# Altium footprint library Connector_Samtec_HSEC8.PcbLib: 133 footprints (part 2 of 9)
Each footprint in its own frame and in the unit in brackets; x right, y up, seen from the top. Pads: shape width x height; smd on the part's side, far side on the other; paste and mask are expansions set on the pad; w line width, h text height; cw(c..) or ccw(c..) is an arc to the next point about the centre after c.
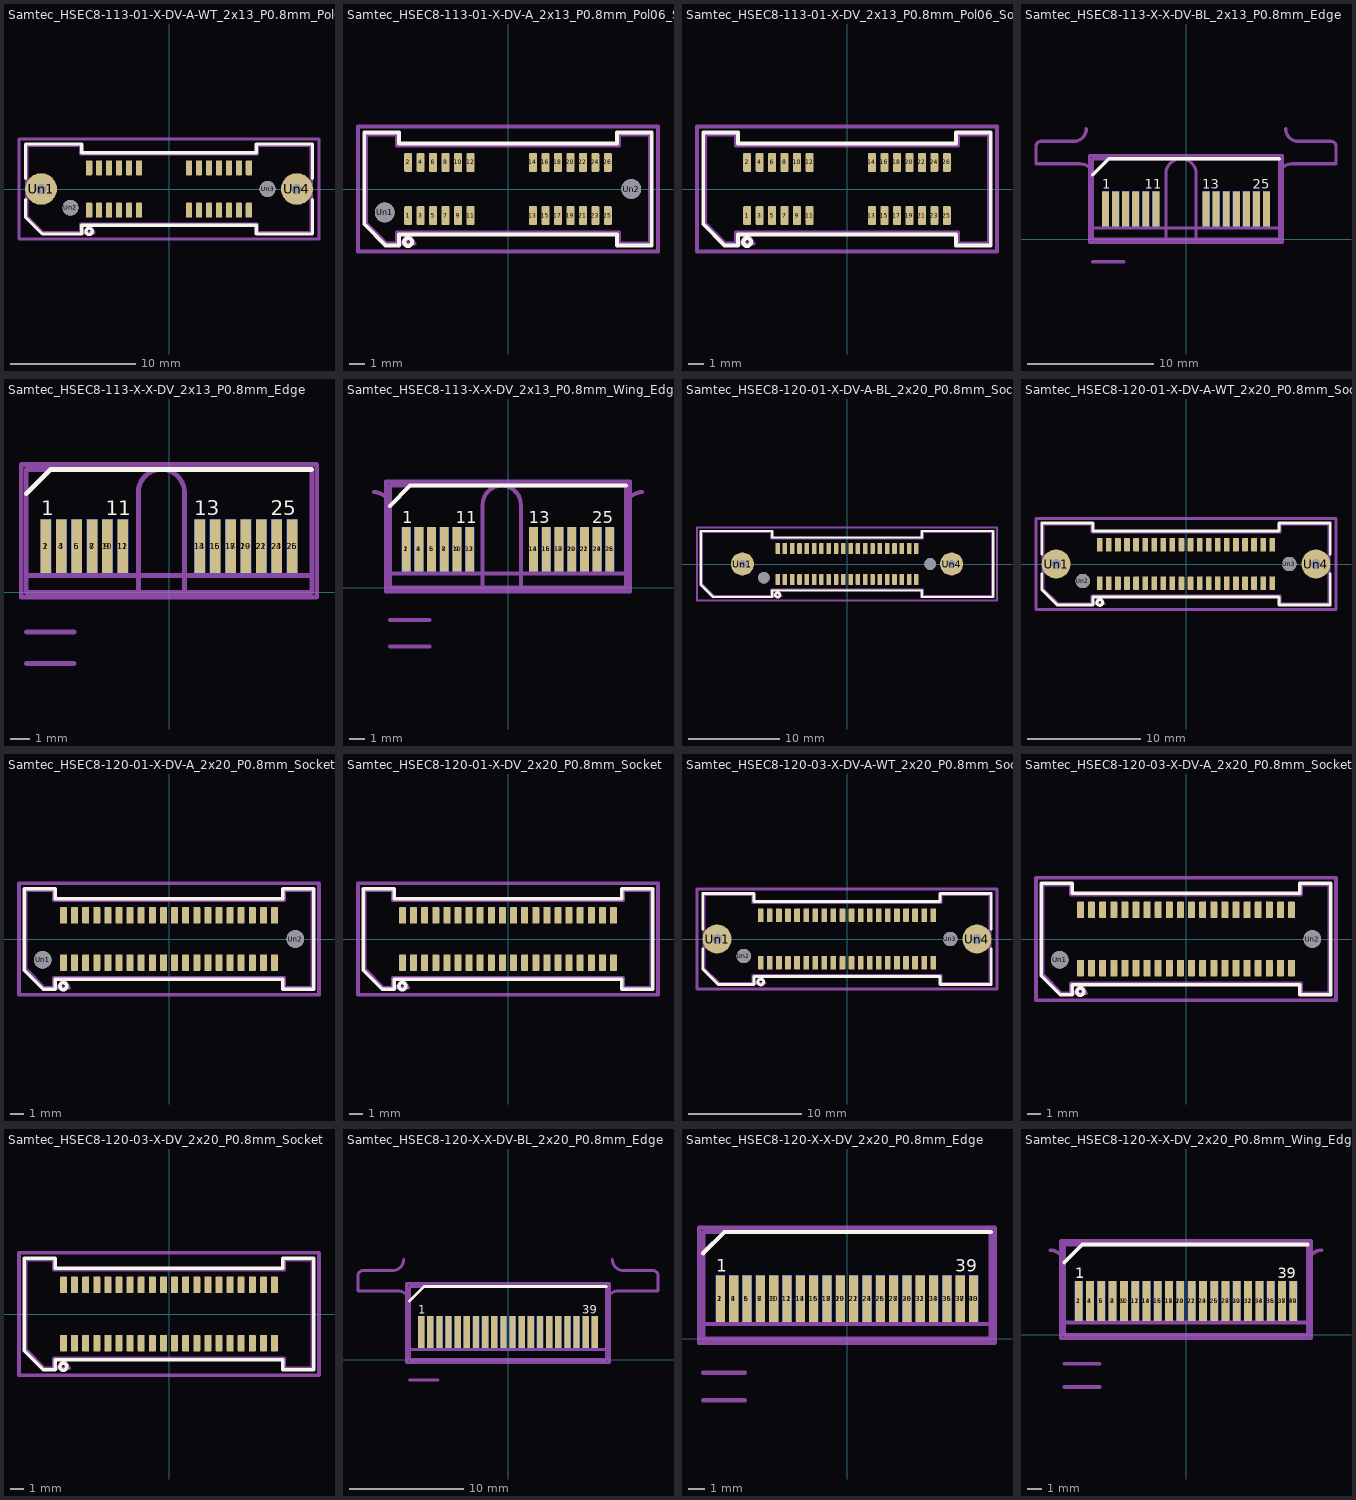
[diagram p1: the footprints below, top view; thin cyan lines are the x and y axes]

## Samtec_HSEC8-113-01-X-DV-A-WT_2x13_P0.8mm_Pol06_Socket_WeldTabs [mm]
pads (30):
  rrect25% 0.5x1.2 smd: 1(-6.4,-1.7) 2(-6.4,1.7) 3(-5.6,-1.7) 4(-5.6,1.7) 5(-4.8,-1.7) 6(-4.8,1.7) 7(-4,-1.7) 8(-4,1.7) 9(-3.2,-1.7) 10(-3.2,1.7) 11(-2.4,-1.7) 12(-2.4,1.7) 13(1.6,-1.7) 14(1.6,1.7) 15(2.4,-1.7) 16(2.4,1.7) 17(3.2,-1.7) 18(3.2,1.7) 19(4,-1.7) 20(4,1.7) 21(4.8,-1.7) 22(4.8,1.7) 23(5.6,-1.7) 24(5.6,1.7) 25(6.4,-1.7) 26(6.4,1.7)
  round 2.54 hole 0.84: Un1(-10.25,0) Un4(10.25,0)
  round 1.27 hole 1.27: Un2(-7.9,-1.5) Un3(7.9,0)
F.SilkS:
  circle w0.254: c-6.4,-3.4 r0.25
  lines w0.254: -11.51,-0.868 -11.51,-2.246 -10.146,-3.61 -6.99,-3.61 -6.99,-2.91 6.99,-2.91 6.99,-3.61 11.51,-3.61 11.51,-0.868 ; -11.51,0.868 -11.51,3.61 -6.99,3.61 -6.99,2.91 6.99,2.91 6.99,3.61 11.51,3.61 11.51,0.868
Top Assembly:
  lines w0.254: -11.4,-2.2 -10.1,-3.5 -7.1,-3.5 -7.1,-2.8 7.1,-2.8 7.1,-3.5 11.4,-3.5 11.4,3.5 7.1,3.5 7.1,2.8 -7.1,2.8 -7.1,3.5 -11.4,3.5 -11.4,-2.2 ; -6.8,-3.5 -6,-3.5 -6.4,-2.86 -6.8,-3.5
  text "'.Designator'" at -4.047,-0.84 h1
Top Courtyard:
  lines w0.254: -12.02,-4 12.02,-4 12.02,4 -12.02,4 -12.02,-4
Top Designator:
  text ".Designator" at -7.618,-0.508 h1.52

## Samtec_HSEC8-113-01-X-DV-A_2x13_P0.8mm_Pol06_Socket_AlignmentPins [mm]
pads (28):
  rrect25% 0.5x1.2 smd: 1(-6.4,-1.7) 2(-6.4,1.7) 3(-5.6,-1.7) 4(-5.6,1.7) 5(-4.8,-1.7) 6(-4.8,1.7) 7(-4,-1.7) 8(-4,1.7) 9(-3.2,-1.7) 10(-3.2,1.7) 11(-2.4,-1.7) 12(-2.4,1.7) 13(1.6,-1.7) 14(1.6,1.7) 15(2.4,-1.7) 16(2.4,1.7) 17(3.2,-1.7) 18(3.2,1.7) 19(4,-1.7) 20(4,1.7) 21(4.8,-1.7) 22(4.8,1.7) 23(5.6,-1.7) 24(5.6,1.7) 25(6.4,-1.7) 26(6.4,1.7)
  round 1.27 hole 1.27: Un1(-7.9,-1.5) Un2(7.9,0)
F.SilkS:
  circle w0.254: c-6.4,-3.4 r0.25
  lines w0.254: -9.21,-2.246 -7.846,-3.61 -6.99,-3.61 -6.99,-2.91 6.99,-2.91 6.99,-3.61 9.21,-3.61 9.21,3.61 6.99,3.61 6.99,2.91 -6.99,2.91 -6.99,3.61 -9.21,3.61 -9.21,-2.246
Top Assembly:
  lines w0.254: -9.1,-2.2 -7.8,-3.5 -7.1,-3.5 -7.1,-2.8 7.1,-2.8 7.1,-3.5 9.1,-3.5 9.1,3.5 7.1,3.5 7.1,2.8 -7.1,2.8 -7.1,3.5 -9.1,3.5 -9.1,-2.2 ; -6.8,-3.5 -6,-3.5 -6.4,-2.86 -6.8,-3.5
  text "'.Designator'" at -4.047,-0.84 h1
Top Courtyard:
  lines w0.254: -9.61,-4 9.61,-4 9.61,4 -9.61,4 -9.61,-4
Top Designator:
  text ".Designator" at -7.618,-0.508 h1.52

## Samtec_HSEC8-113-01-X-DV_2x13_P0.8mm_Pol06_Socket [mm]
pads (26):
  rrect25% 0.5x1.2 smd: 1(-6.4,-1.7) 2(-6.4,1.7) 3(-5.6,-1.7) 4(-5.6,1.7) 5(-4.8,-1.7) 6(-4.8,1.7) 7(-4,-1.7) 8(-4,1.7) 9(-3.2,-1.7) 10(-3.2,1.7) 11(-2.4,-1.7) 12(-2.4,1.7) 13(1.6,-1.7) 14(1.6,1.7) 15(2.4,-1.7) 16(2.4,1.7) 17(3.2,-1.7) 18(3.2,1.7) 19(4,-1.7) 20(4,1.7) 21(4.8,-1.7) 22(4.8,1.7) 23(5.6,-1.7) 24(5.6,1.7) 25(6.4,-1.7) 26(6.4,1.7)
F.SilkS:
  circle w0.254: c-6.4,-3.4 r0.25
  lines w0.254: -9.21,-2.246 -7.846,-3.61 -6.99,-3.61 -6.99,-2.91 6.99,-2.91 6.99,-3.61 9.21,-3.61 9.21,3.61 6.99,3.61 6.99,2.91 -6.99,2.91 -6.99,3.61 -9.21,3.61 -9.21,-2.246
Top Assembly:
  lines w0.254: -9.1,-2.2 -7.8,-3.5 -7.1,-3.5 -7.1,-2.8 7.1,-2.8 7.1,-3.5 9.1,-3.5 9.1,3.5 7.1,3.5 7.1,2.8 -7.1,2.8 -7.1,3.5 -9.1,3.5 -9.1,-2.2 ; -6.8,-3.5 -6,-3.5 -6.4,-2.86 -6.8,-3.5
  text "'.Designator'" at -4.047,-0.84 h1
Top Courtyard:
  lines w0.254: -9.61,-4 9.61,-4 9.61,4 -9.61,4 -9.61,-4
Top Designator:
  text ".Designator" at -7.618,-0.508 h1.52

## Samtec_HSEC8-113-X-X-DV-BL_2x13_P0.8mm_Edge [mm]
pads (26):
  rect 0.55x2.8 smd: 1(-6.4,2.4) 3(-5.6,2.4) 5(-4.8,2.4) 7(-4,2.4) 9(-3.2,2.4) 11(-2.4,2.4) 13(1.6,2.4) 15(2.4,2.4) 17(3.2,2.4) 19(4,2.4) 21(4.8,2.4) 23(5.6,2.4) 25(6.4,2.4)
  rect 0.55x2.8 smd far side: 2(-6.4,2.4) 4(-5.6,2.4) 6(-4.8,2.4) 8(-4,2.4) 10(-3.2,2.4) 12(-2.4,2.4) 14(1.6,2.4) 16(2.4,2.4) 18(3.2,2.4) 20(4,2.4) 22(4.8,2.4) 24(5.6,2.4) 26(6.4,2.4)
F.SilkS:
  lines w0.254: -7.425,5.13 -6.155,6.4 7.425,6.4
  text "25" at 5.291,4.025 h0.75
  text "13" at 1.3,4.025 h0.75
  text "11" at -3.289,4.025 h0.75
  text "1" at -6.639,4.025 h0.75
B.SilkS:
  lines w0.254: -7.425,6.4 7.425,6.4
  text "26" at 6.741,4.025 h0.75
  text "14" at 2.668,4.025 h0.75
  text "12" at -2.1,4.025 h0.75
  text "2" at -6,4.025 h0.75
Top Assembly:
  lines w0.254: -7.425,0.88 7.425,0.88 ; -7.425,0 7.425,0 7.425,6.4 -6.155,6.4 -7.425,5.13 -7.425,0
  text "'.Designator'" at -4.047,1.7 h1
Bottom Assembly:
  lines w0.254: -7.425,0.88 7.425,0.88 ; -7.425,0 7.425,0 7.425,6.4 -7.425,6.4 -7.425,0
Top Courtyard:
  lines w0.254: -7.68,-0.25 7.68,-0.25 7.68,6.65 -7.68,6.65 -7.68,-0.25
Bottom Courtyard:
  lines w0.254: -7.68,-0.25 7.68,-0.25 7.68,6.65 -7.68,6.65 -7.68,-0.25
Top Designator:
  text ".Designator" at -6.53,2.485 h1.52
Board Shape:
  lines w0.254: -7.925,8.78 cw(c-8.925,8.78) -8.925,7.78 -11.525,7.78 ccw(c-11.525,7.38) -11.925,7.38 -11.925,6 -8.425,6 cw(c-8.425,5) -7.425,5 -7.425,0 -1.595,0 -1.595,5.2 cw(c-0.395,5.2) 0.805,5.2 0.805,0 7.425,0 7.425,5 cw(c8.425,5) 8.425,6 11.925,6 11.925,7.38 ccw(c11.525,7.38) 11.525,7.78 8.925,7.78 cw(c8.925,8.78) 7.925,8.78
Cmts.User:
  lines w0.254: -7.425,-1.8 -4.925,-1.8
  text "mated PCB distance: 1.80 mm (ref)" at -4.83,-2.521 h0.75
  text "Chamfer 30 degree 0.45 mm" at -7.868,-0.21 h0.75

## Samtec_HSEC8-113-X-X-DV_2x13_P0.8mm_Edge [mm]
pads (26):
  rect 0.55x2.8 smd: 1(-6.4,2.4) 3(-5.6,2.4) 5(-4.8,2.4) 7(-4,2.4) 9(-3.2,2.4) 11(-2.4,2.4) 13(1.6,2.4) 15(2.4,2.4) 17(3.2,2.4) 19(4,2.4) 21(4.8,2.4) 23(5.6,2.4) 25(6.4,2.4)
  rect 0.55x2.8 smd far side: 2(-6.4,2.4) 4(-5.6,2.4) 6(-4.8,2.4) 8(-4,2.4) 10(-3.2,2.4) 12(-2.4,2.4) 14(1.6,2.4) 16(2.4,2.4) 18(3.2,2.4) 20(4,2.4) 22(4.8,2.4) 24(5.6,2.4) 26(6.4,2.4)
F.SilkS:
  lines w0.254: -7.425,5.13 -6.155,6.4 7.425,6.4
  text "25" at 5.291,4.025 h0.75
  text "13" at 1.3,4.025 h0.75
  text "11" at -3.289,4.025 h0.75
  text "1" at -6.639,4.025 h0.75
B.SilkS:
  lines w0.254: -7.425,6.4 7.425,6.4
  text "26" at 6.741,4.025 h0.75
  text "14" at 2.668,4.025 h0.75
  text "12" at -2.1,4.025 h0.75
  text "2" at -6,4.025 h0.75
Top Assembly:
  lines w0.254: -7.425,0.88 7.425,0.88 ; -7.425,0 7.425,0 7.425,6.4 -6.155,6.4 -7.425,5.13 -7.425,0
  text "'.Designator'" at -4.047,1.7 h1
Bottom Assembly:
  lines w0.254: -7.425,0.88 7.425,0.88 ; -7.425,0 7.425,0 7.425,6.4 -7.425,6.4 -7.425,0
Top Courtyard:
  lines w0.254: -7.68,-0.25 7.68,-0.25 7.68,6.65 -7.68,6.65 -7.68,-0.25
Bottom Courtyard:
  lines w0.254: -7.68,-0.25 7.68,-0.25 7.68,6.65 -7.68,6.65 -7.68,-0.25
Top Designator:
  text ".Designator" at -4.042,0.475 h1.52
Board Shape:
  lines w0.254: -7.425,5 -7.425,0 -1.595,0 -1.595,5.2 cw(c-0.395,5.2) 0.805,5.2 0.805,0 7.425,0 7.425,5
Cmts.User:
  lines w0.254: -7.425,-3.69 -4.925,-3.69 ; -7.425,-2.05 -4.925,-2.05
  text "mated PCB distance: 3.69 mm (max)" at -4.83,-4.411 h0.75
  text "mated PCB distance: 2.05 mm (min)" at -4.83,-2.771 h0.75
  text "Chamfer 30 degree 0.45 mm" at -7.868,-0.21 h0.75

## Samtec_HSEC8-113-X-X-DV_2x13_P0.8mm_Wing_Edge [mm]
pads (26):
  rect 0.55x2.8 smd: 1(-6.4,2.4) 3(-5.6,2.4) 5(-4.8,2.4) 7(-4,2.4) 9(-3.2,2.4) 11(-2.4,2.4) 13(1.6,2.4) 15(2.4,2.4) 17(3.2,2.4) 19(4,2.4) 21(4.8,2.4) 23(5.6,2.4) 25(6.4,2.4)
  rect 0.55x2.8 smd far side: 2(-6.4,2.4) 4(-5.6,2.4) 6(-4.8,2.4) 8(-4,2.4) 10(-3.2,2.4) 12(-2.4,2.4) 14(1.6,2.4) 16(2.4,2.4) 18(3.2,2.4) 20(4,2.4) 22(4.8,2.4) 24(5.6,2.4) 26(6.4,2.4)
F.SilkS:
  lines w0.254: -7.425,5.13 -6.155,6.4 7.425,6.4
  text "25" at 5.291,4.025 h0.75
  text "13" at 1.3,4.025 h0.75
  text "11" at -3.289,4.025 h0.75
  text "1" at -6.639,4.025 h0.75
B.SilkS:
  lines w0.254: -7.425,6.4 7.425,6.4
  text "26" at 6.741,4.025 h0.75
  text "14" at 2.668,4.025 h0.75
  text "12" at -2.1,4.025 h0.75
  text "2" at -6,4.025 h0.75
Top Assembly:
  lines w0.254: -7.425,0.88 7.425,0.88 ; -7.425,0 7.425,0 7.425,6.4 -6.155,6.4 -7.425,5.13 -7.425,0
  text "'.Designator'" at -4.047,1.7 h1
Bottom Assembly:
  lines w0.254: -7.425,0.88 7.425,0.88 ; -7.425,0 7.425,0 7.425,6.4 -7.425,6.4 -7.425,0
Top Courtyard:
  lines w0.254: -7.68,-0.25 7.68,-0.25 7.68,6.65 -7.68,6.65 -7.68,-0.25
Bottom Courtyard:
  lines w0.254: -7.68,-0.25 7.68,-0.25 7.68,6.65 -7.68,6.65 -7.68,-0.25
Top Designator:
  text ".Designator" at -4.309,0.475 h1.52
Board Shape:
  lines w0.254: -8.425,6 cw(c-8.425,5) -7.425,5 -7.425,0 -1.595,0 -1.595,5.2 cw(c-0.395,5.2) 0.805,5.2 0.805,0 7.425,0 7.425,5 cw(c8.425,5) 8.425,6
Cmts.User:
  lines w0.254: -7.425,-3.69 -4.925,-3.69 ; -7.425,-2.05 -4.925,-2.05
  text "mated PCB distance: 3.69 mm (max)" at -4.83,-4.411 h0.75
  text "mated PCB distance: 2.05 mm (min)" at -4.83,-2.771 h0.75
  text "Chamfer 30 degree 0.45 mm" at -7.868,-0.21 h0.75

## Samtec_HSEC8-120-01-X-DV-A-BL_2x20_P0.8mm_Socket_WeldTabs_BoardLocks [mm]
pads (44):
  rrect25% 0.5x1.2 smd: 1(-7.6,-1.7) 2(-7.6,1.7) 3(-6.8,-1.7) 4(-6.8,1.7) 5(-6,-1.7) 6(-6,1.7) 7(-5.2,-1.7) 8(-5.2,1.7) 9(-4.4,-1.7) 10(-4.4,1.7) 11(-3.6,-1.7) 12(-3.6,1.7) 13(-2.8,-1.7) 14(-2.8,1.7) 15(-2,-1.7) 16(-2,1.7) 17(-1.2,-1.7) 18(-1.2,1.7) 19(-0.4,-1.7) 20(-0.4,1.7) 21(0.4,-1.7) 22(0.4,1.7) 23(1.2,-1.7) 24(1.2,1.7) 25(2,-1.7) 26(2,1.7) 27(2.8,-1.7) 28(2.8,1.7) 29(3.6,-1.7) 30(3.6,1.7) 31(4.4,-1.7) 32(4.4,1.7) 33(5.2,-1.7) 34(5.2,1.7) 35(6,-1.7) 36(6,1.7) 37(6.8,-1.7) 38(6.8,1.7) 39(7.6,-1.7) 40(7.6,1.7)
  round 2.54 hole 0.84: Un1(-11.45,0) Un4(11.45,0)
  round 1.27 hole 1.27: Un2(-9.1,-1.5) Un3(9.1,0)
F.SilkS:
  circle w0.254: c-7.6,-3.4 r0.25
  lines w0.254: -16.035,-2.246 -14.671,-3.61 -8.19,-3.61 -8.19,-2.91 8.19,-2.91 8.19,-3.61 16.035,-3.61 16.035,3.61 8.19,3.61 8.19,2.91 -8.19,2.91 -8.19,3.61 -16.035,3.61 -16.035,-2.246
Top Assembly:
  lines w0.254: -15.925,-2.2 -14.625,-3.5 -8.3,-3.5 -8.3,-2.8 8.3,-2.8 8.3,-3.5 15.925,-3.5 15.925,3.5 8.3,3.5 8.3,2.8 -8.3,2.8 -8.3,3.5 -15.925,3.5 -15.925,-2.2 ; -8,-3.5 -7.2,-3.5 -7.6,-2.86 -8,-3.5
  text "'.Designator'" at -4.047,-0.84 h1
Top Courtyard:
  lines w0.254: -16.43,-4 16.43,-4 16.43,4 -16.43,4 -16.43,-4
Top Designator:
  text ".Designator" at -7.618,-0.508 h1.52

## Samtec_HSEC8-120-01-X-DV-A-WT_2x20_P0.8mm_Socket_WeldTabs [mm]
pads (44):
  rrect25% 0.5x1.2 smd: 1(-7.6,-1.7) 2(-7.6,1.7) 3(-6.8,-1.7) 4(-6.8,1.7) 5(-6,-1.7) 6(-6,1.7) 7(-5.2,-1.7) 8(-5.2,1.7) 9(-4.4,-1.7) 10(-4.4,1.7) 11(-3.6,-1.7) 12(-3.6,1.7) 13(-2.8,-1.7) 14(-2.8,1.7) 15(-2,-1.7) 16(-2,1.7) 17(-1.2,-1.7) 18(-1.2,1.7) 19(-0.4,-1.7) 20(-0.4,1.7) 21(0.4,-1.7) 22(0.4,1.7) 23(1.2,-1.7) 24(1.2,1.7) 25(2,-1.7) 26(2,1.7) 27(2.8,-1.7) 28(2.8,1.7) 29(3.6,-1.7) 30(3.6,1.7) 31(4.4,-1.7) 32(4.4,1.7) 33(5.2,-1.7) 34(5.2,1.7) 35(6,-1.7) 36(6,1.7) 37(6.8,-1.7) 38(6.8,1.7) 39(7.6,-1.7) 40(7.6,1.7)
  round 2.54 hole 0.84: Un1(-11.45,0) Un4(11.45,0)
  round 1.27 hole 1.27: Un2(-9.1,-1.5) Un3(9.1,0)
F.SilkS:
  circle w0.254: c-7.6,-3.4 r0.25
  lines w0.254: -12.71,-0.868 -12.71,-2.246 -11.346,-3.61 -8.19,-3.61 -8.19,-2.91 8.19,-2.91 8.19,-3.61 12.71,-3.61 12.71,-0.868 ; -12.71,0.868 -12.71,3.61 -8.19,3.61 -8.19,2.91 8.19,2.91 8.19,3.61 12.71,3.61 12.71,0.868
Top Assembly:
  lines w0.254: -12.6,-2.2 -11.3,-3.5 -8.3,-3.5 -8.3,-2.8 8.3,-2.8 8.3,-3.5 12.6,-3.5 12.6,3.5 8.3,3.5 8.3,2.8 -8.3,2.8 -8.3,3.5 -12.6,3.5 -12.6,-2.2 ; -8,-3.5 -7.2,-3.5 -7.6,-2.86 -8,-3.5
  text "'.Designator'" at -4.047,-0.84 h1
Top Courtyard:
  lines w0.254: -13.22,-4 13.22,-4 13.22,4 -13.22,4 -13.22,-4
Top Designator:
  text ".Designator" at -7.618,-0.508 h1.52

## Samtec_HSEC8-120-01-X-DV-A_2x20_P0.8mm_Socket_AlignmentPins [mm]
pads (42):
  rrect25% 0.5x1.2 smd: 1(-7.6,-1.7) 2(-7.6,1.7) 3(-6.8,-1.7) 4(-6.8,1.7) 5(-6,-1.7) 6(-6,1.7) 7(-5.2,-1.7) 8(-5.2,1.7) 9(-4.4,-1.7) 10(-4.4,1.7) 11(-3.6,-1.7) 12(-3.6,1.7) 13(-2.8,-1.7) 14(-2.8,1.7) 15(-2,-1.7) 16(-2,1.7) 17(-1.2,-1.7) 18(-1.2,1.7) 19(-0.4,-1.7) 20(-0.4,1.7) 21(0.4,-1.7) 22(0.4,1.7) 23(1.2,-1.7) 24(1.2,1.7) 25(2,-1.7) 26(2,1.7) 27(2.8,-1.7) 28(2.8,1.7) 29(3.6,-1.7) 30(3.6,1.7) 31(4.4,-1.7) 32(4.4,1.7) 33(5.2,-1.7) 34(5.2,1.7) 35(6,-1.7) 36(6,1.7) 37(6.8,-1.7) 38(6.8,1.7) 39(7.6,-1.7) 40(7.6,1.7)
  round 1.27 hole 1.27: Un1(-9.1,-1.5) Un2(9.1,0)
F.SilkS:
  circle w0.254: c-7.6,-3.4 r0.25
  lines w0.254: -10.41,-2.246 -9.046,-3.61 -8.19,-3.61 -8.19,-2.91 8.19,-2.91 8.19,-3.61 10.41,-3.61 10.41,3.61 8.19,3.61 8.19,2.91 -8.19,2.91 -8.19,3.61 -10.41,3.61 -10.41,-2.246
Top Assembly:
  lines w0.254: -10.3,-2.2 -9,-3.5 -8.3,-3.5 -8.3,-2.8 8.3,-2.8 8.3,-3.5 10.3,-3.5 10.3,3.5 8.3,3.5 8.3,2.8 -8.3,2.8 -8.3,3.5 -10.3,3.5 -10.3,-2.2 ; -8,-3.5 -7.2,-3.5 -7.6,-2.86 -8,-3.5
  text "'.Designator'" at -4.047,-0.84 h1
Top Courtyard:
  lines w0.254: -10.8,-4 10.8,-4 10.8,4 -10.8,4 -10.8,-4
Top Designator:
  text ".Designator" at -7.618,-0.508 h1.52

## Samtec_HSEC8-120-01-X-DV_2x20_P0.8mm_Socket [mm]
pads (40):
  rrect25% 0.5x1.2 smd: 1(-7.6,-1.7) 2(-7.6,1.7) 3(-6.8,-1.7) 4(-6.8,1.7) 5(-6,-1.7) 6(-6,1.7) 7(-5.2,-1.7) 8(-5.2,1.7) 9(-4.4,-1.7) 10(-4.4,1.7) 11(-3.6,-1.7) 12(-3.6,1.7) 13(-2.8,-1.7) 14(-2.8,1.7) 15(-2,-1.7) 16(-2,1.7) 17(-1.2,-1.7) 18(-1.2,1.7) 19(-0.4,-1.7) 20(-0.4,1.7) 21(0.4,-1.7) 22(0.4,1.7) 23(1.2,-1.7) 24(1.2,1.7) 25(2,-1.7) 26(2,1.7) 27(2.8,-1.7) 28(2.8,1.7) 29(3.6,-1.7) 30(3.6,1.7) 31(4.4,-1.7) 32(4.4,1.7) 33(5.2,-1.7) 34(5.2,1.7) 35(6,-1.7) 36(6,1.7) 37(6.8,-1.7) 38(6.8,1.7) 39(7.6,-1.7) 40(7.6,1.7)
F.SilkS:
  circle w0.254: c-7.6,-3.4 r0.25
  lines w0.254: -10.41,-2.246 -9.046,-3.61 -8.19,-3.61 -8.19,-2.91 8.19,-2.91 8.19,-3.61 10.41,-3.61 10.41,3.61 8.19,3.61 8.19,2.91 -8.19,2.91 -8.19,3.61 -10.41,3.61 -10.41,-2.246
Top Assembly:
  lines w0.254: -10.3,-2.2 -9,-3.5 -8.3,-3.5 -8.3,-2.8 8.3,-2.8 8.3,-3.5 10.3,-3.5 10.3,3.5 8.3,3.5 8.3,2.8 -8.3,2.8 -8.3,3.5 -10.3,3.5 -10.3,-2.2 ; -8,-3.5 -7.2,-3.5 -7.6,-2.86 -8,-3.5
  text "'.Designator'" at -4.047,-0.84 h1
Top Courtyard:
  lines w0.254: -10.8,-4 10.8,-4 10.8,4 -10.8,4 -10.8,-4
Top Designator:
  text ".Designator" at -7.618,-0.508 h1.52

## Samtec_HSEC8-120-03-X-DV-A-WT_2x20_P0.8mm_Socket_WeldTabs [mm]
pads (44):
  rrect25% 0.5x1.2 smd: 1(-7.6,-2.095) 2(-7.6,2.095) 3(-6.8,-2.095) 4(-6.8,2.095) 5(-6,-2.095) 6(-6,2.095) 7(-5.2,-2.095) 8(-5.2,2.095) 9(-4.4,-2.095) 10(-4.4,2.095) 11(-3.6,-2.095) 12(-3.6,2.095) 13(-2.8,-2.095) 14(-2.8,2.095) 15(-2,-2.095) 16(-2,2.095) 17(-1.2,-2.095) 18(-1.2,2.095) 19(-0.4,-2.095) 20(-0.4,2.095) 21(0.4,-2.095) 22(0.4,2.095) 23(1.2,-2.095) 24(1.2,2.095) 25(2,-2.095) 26(2,2.095) 27(2.8,-2.095) 28(2.8,2.095) 29(3.6,-2.095) 30(3.6,2.095) 31(4.4,-2.095) 32(4.4,2.095) 33(5.2,-2.095) 34(5.2,2.095) 35(6,-2.095) 36(6,2.095) 37(6.8,-2.095) 38(6.8,2.095) 39(7.6,-2.095) 40(7.6,2.095)
  round 2.54 hole 0.84: Un1(-11.45,0) Un4(11.45,0)
  round 1.27 hole 1.27: Un2(-9.1,-1.5) Un3(9.1,0)
F.SilkS:
  circle w0.254: c-7.6,-3.795 r0.25
  lines w0.254: -12.71,-0.868 -12.71,-2.641 -11.346,-4.005 -8.19,-4.005 -8.19,-3.305 8.19,-3.305 8.19,-4.005 12.71,-4.005 12.71,-0.868 ; -12.71,0.868 -12.71,4.005 -8.19,4.005 -8.19,3.305 8.19,3.305 8.19,4.005 12.71,4.005 12.71,0.868
Top Assembly:
  lines w0.254: -12.6,-2.595 -11.3,-3.895 -8.3,-3.895 -8.3,-3.195 8.3,-3.195 8.3,-3.895 12.6,-3.895 12.6,3.895 8.3,3.895 8.3,3.195 -8.3,3.195 -8.3,3.895 -12.6,3.895 -12.6,-2.595 ; -8,-3.895 -7.2,-3.895 -7.6,-3.255 -8,-3.895
  text "'.Designator'" at -4.047,-0.84 h1
Top Courtyard:
  lines w0.254: -13.22,-4.4 13.22,-4.4 13.22,4.4 -13.22,4.4 -13.22,-4.4
Top Designator:
  text ".Designator" at -7.618,-0.508 h1.52

## Samtec_HSEC8-120-03-X-DV-A_2x20_P0.8mm_Socket_AlignmentPins [mm]
pads (42):
  rrect25% 0.5x1.2 smd: 1(-7.6,-2.095) 2(-7.6,2.095) 3(-6.8,-2.095) 4(-6.8,2.095) 5(-6,-2.095) 6(-6,2.095) 7(-5.2,-2.095) 8(-5.2,2.095) 9(-4.4,-2.095) 10(-4.4,2.095) 11(-3.6,-2.095) 12(-3.6,2.095) 13(-2.8,-2.095) 14(-2.8,2.095) 15(-2,-2.095) 16(-2,2.095) 17(-1.2,-2.095) 18(-1.2,2.095) 19(-0.4,-2.095) 20(-0.4,2.095) 21(0.4,-2.095) 22(0.4,2.095) 23(1.2,-2.095) 24(1.2,2.095) 25(2,-2.095) 26(2,2.095) 27(2.8,-2.095) 28(2.8,2.095) 29(3.6,-2.095) 30(3.6,2.095) 31(4.4,-2.095) 32(4.4,2.095) 33(5.2,-2.095) 34(5.2,2.095) 35(6,-2.095) 36(6,2.095) 37(6.8,-2.095) 38(6.8,2.095) 39(7.6,-2.095) 40(7.6,2.095)
  round 1.27 hole 1.27: Un1(-9.1,-1.5) Un2(9.1,0)
F.SilkS:
  circle w0.254: c-7.6,-3.795 r0.25
  lines w0.254: -10.41,-2.641 -9.046,-4.005 -8.19,-4.005 -8.19,-3.305 8.19,-3.305 8.19,-4.005 10.41,-4.005 10.41,4.005 8.19,4.005 8.19,3.305 -8.19,3.305 -8.19,4.005 -10.41,4.005 -10.41,-2.641
Top Assembly:
  lines w0.254: -10.3,-2.595 -9,-3.895 -8.3,-3.895 -8.3,-3.195 8.3,-3.195 8.3,-3.895 10.3,-3.895 10.3,3.895 8.3,3.895 8.3,3.195 -8.3,3.195 -8.3,3.895 -10.3,3.895 -10.3,-2.595 ; -8,-3.895 -7.2,-3.895 -7.6,-3.255 -8,-3.895
  text "'.Designator'" at -4.047,-0.84 h1
Top Courtyard:
  lines w0.254: -10.8,-4.4 10.8,-4.4 10.8,4.4 -10.8,4.4 -10.8,-4.4
Top Designator:
  text ".Designator" at -7.618,-0.508 h1.52

## Samtec_HSEC8-120-03-X-DV_2x20_P0.8mm_Socket [mm]
pads (40):
  rrect25% 0.5x1.2 smd: 1(-7.6,-2.095) 2(-7.6,2.095) 3(-6.8,-2.095) 4(-6.8,2.095) 5(-6,-2.095) 6(-6,2.095) 7(-5.2,-2.095) 8(-5.2,2.095) 9(-4.4,-2.095) 10(-4.4,2.095) 11(-3.6,-2.095) 12(-3.6,2.095) 13(-2.8,-2.095) 14(-2.8,2.095) 15(-2,-2.095) 16(-2,2.095) 17(-1.2,-2.095) 18(-1.2,2.095) 19(-0.4,-2.095) 20(-0.4,2.095) 21(0.4,-2.095) 22(0.4,2.095) 23(1.2,-2.095) 24(1.2,2.095) 25(2,-2.095) 26(2,2.095) 27(2.8,-2.095) 28(2.8,2.095) 29(3.6,-2.095) 30(3.6,2.095) 31(4.4,-2.095) 32(4.4,2.095) 33(5.2,-2.095) 34(5.2,2.095) 35(6,-2.095) 36(6,2.095) 37(6.8,-2.095) 38(6.8,2.095) 39(7.6,-2.095) 40(7.6,2.095)
F.SilkS:
  circle w0.254: c-7.6,-3.795 r0.25
  lines w0.254: -10.41,-2.641 -9.046,-4.005 -8.19,-4.005 -8.19,-3.305 8.19,-3.305 8.19,-4.005 10.41,-4.005 10.41,4.005 8.19,4.005 8.19,3.305 -8.19,3.305 -8.19,4.005 -10.41,4.005 -10.41,-2.641
Top Assembly:
  lines w0.254: -10.3,-2.595 -9,-3.895 -8.3,-3.895 -8.3,-3.195 8.3,-3.195 8.3,-3.895 10.3,-3.895 10.3,3.895 8.3,3.895 8.3,3.195 -8.3,3.195 -8.3,3.895 -10.3,3.895 -10.3,-2.595 ; -8,-3.895 -7.2,-3.895 -7.6,-3.255 -8,-3.895
  text "'.Designator'" at -4.047,-0.84 h1
Top Courtyard:
  lines w0.254: -10.8,-4.4 10.8,-4.4 10.8,4.4 -10.8,4.4 -10.8,-4.4
Top Designator:
  text ".Designator" at -7.618,-0.508 h1.52

## Samtec_HSEC8-120-X-X-DV-BL_2x20_P0.8mm_Edge [mm]
pads (40):
  rect 0.55x2.8 smd: 1(-7.6,2.4) 3(-6.8,2.4) 5(-6,2.4) 7(-5.2,2.4) 9(-4.4,2.4) 11(-3.6,2.4) 13(-2.8,2.4) 15(-2,2.4) 17(-1.2,2.4) 19(-0.4,2.4) 21(0.4,2.4) 23(1.2,2.4) 25(2,2.4) 27(2.8,2.4) 29(3.6,2.4) 31(4.4,2.4) 33(5.2,2.4) 35(6,2.4) 37(6.8,2.4) 39(7.6,2.4)
  rect 0.55x2.8 smd far side: 2(-7.6,2.4) 4(-6.8,2.4) 6(-6,2.4) 8(-5.2,2.4) 10(-4.4,2.4) 12(-3.6,2.4) 14(-2.8,2.4) 16(-2,2.4) 18(-1.2,2.4) 20(-0.4,2.4) 22(0.4,2.4) 24(1.2,2.4) 26(2,2.4) 28(2.8,2.4) 30(3.6,2.4) 32(4.4,2.4) 34(5.2,2.4) 36(6,2.4) 38(6.8,2.4) 40(7.6,2.4)
F.SilkS:
  lines w0.254: -8.625,5.13 -7.355,6.4 8.625,6.4
  text "39" at 6.509,4.025 h0.75
  text "1" at -7.839,4.025 h0.75
B.SilkS:
  lines w0.254: -8.625,6.4 8.625,6.4
  text "40" at 7.959,4.025 h0.75
  text "2" at -7.2,4.025 h0.75
Top Assembly:
  lines w0.254: -8.625,0.88 8.625,0.88 ; -8.625,0 8.625,0 8.625,6.4 -7.355,6.4 -8.625,5.13 -8.625,0
  text "'.Designator'" at -4.047,1.7 h1
Bottom Assembly:
  lines w0.254: -8.625,0.88 8.625,0.88 ; -8.625,0 8.625,0 8.625,6.4 -8.625,6.4 -8.625,0
Top Courtyard:
  lines w0.254: -8.88,-0.25 8.88,-0.25 8.88,6.65 -8.88,6.65 -8.88,-0.25
Bottom Courtyard:
  lines w0.254: -8.88,-0.25 8.88,-0.25 8.88,6.65 -8.88,6.65 -8.88,-0.25
Top Designator:
  text ".Designator" at -7.618,2.485 h1.52
Board Shape:
  lines w0.254: -9.125,8.78 cw(c-10.125,8.78) -10.125,7.78 -12.725,7.78 ccw(c-12.725,7.38) -13.125,7.38 -13.125,6 -9.625,6 cw(c-9.625,5) -8.625,5 -8.625,0 8.625,0 8.625,5 cw(c9.625,5) 9.625,6 13.125,6 13.125,7.38 ccw(c12.725,7.38) 12.725,7.78 10.125,7.78 cw(c10.125,8.78) 9.125,8.78
Cmts.User:
  lines w0.254: -8.625,-1.8 -6.125,-1.8
  text "mated PCB distance: 1.80 mm (ref)" at -6.03,-2.521 h0.75
  text "Chamfer 30 degree 0.45 mm" at -7.868,-0.21 h0.75

## Samtec_HSEC8-120-X-X-DV_2x20_P0.8mm_Edge [mm]
pads (40):
  rect 0.55x2.8 smd: 1(-7.6,2.4) 3(-6.8,2.4) 5(-6,2.4) 7(-5.2,2.4) 9(-4.4,2.4) 11(-3.6,2.4) 13(-2.8,2.4) 15(-2,2.4) 17(-1.2,2.4) 19(-0.4,2.4) 21(0.4,2.4) 23(1.2,2.4) 25(2,2.4) 27(2.8,2.4) 29(3.6,2.4) 31(4.4,2.4) 33(5.2,2.4) 35(6,2.4) 37(6.8,2.4) 39(7.6,2.4)
  rect 0.55x2.8 smd far side: 2(-7.6,2.4) 4(-6.8,2.4) 6(-6,2.4) 8(-5.2,2.4) 10(-4.4,2.4) 12(-3.6,2.4) 14(-2.8,2.4) 16(-2,2.4) 18(-1.2,2.4) 20(-0.4,2.4) 22(0.4,2.4) 24(1.2,2.4) 26(2,2.4) 28(2.8,2.4) 30(3.6,2.4) 32(4.4,2.4) 34(5.2,2.4) 36(6,2.4) 38(6.8,2.4) 40(7.6,2.4)
F.SilkS:
  lines w0.254: -8.625,5.13 -7.355,6.4 8.625,6.4
  text "39" at 6.509,4.025 h0.75
  text "1" at -7.839,4.025 h0.75
B.SilkS:
  lines w0.254: -8.625,6.4 8.625,6.4
  text "40" at 7.959,4.025 h0.75
  text "2" at -7.2,4.025 h0.75
Top Assembly:
  lines w0.254: -8.625,0.88 8.625,0.88 ; -8.625,0 8.625,0 8.625,6.4 -7.355,6.4 -8.625,5.13 -8.625,0
  text "'.Designator'" at -4.047,1.7 h1
Bottom Assembly:
  lines w0.254: -8.625,0.88 8.625,0.88 ; -8.625,0 8.625,0 8.625,6.4 -8.625,6.4 -8.625,0
Top Courtyard:
  lines w0.254: -8.88,-0.25 8.88,-0.25 8.88,6.65 -8.88,6.65 -8.88,-0.25
Bottom Courtyard:
  lines w0.254: -8.88,-0.25 8.88,-0.25 8.88,6.65 -8.88,6.65 -8.88,-0.25
Top Designator:
  text ".Designator" at -5.136,0.475 h1.52
Board Shape:
  lines w0.254: -8.625,5 -8.625,0 8.625,0 8.625,5
Cmts.User:
  lines w0.254: -8.625,-3.69 -6.125,-3.69 ; -8.625,-2.05 -6.125,-2.05
  text "mated PCB distance: 3.69 mm (max)" at -6.03,-4.411 h0.75
  text "mated PCB distance: 2.05 mm (min)" at -6.03,-2.771 h0.75
  text "Chamfer 30 degree 0.45 mm" at -7.868,-0.21 h0.75

## Samtec_HSEC8-120-X-X-DV_2x20_P0.8mm_Wing_Edge [mm]
pads (40):
  rect 0.55x2.8 smd: 1(-7.6,2.4) 3(-6.8,2.4) 5(-6,2.4) 7(-5.2,2.4) 9(-4.4,2.4) 11(-3.6,2.4) 13(-2.8,2.4) 15(-2,2.4) 17(-1.2,2.4) 19(-0.4,2.4) 21(0.4,2.4) 23(1.2,2.4) 25(2,2.4) 27(2.8,2.4) 29(3.6,2.4) 31(4.4,2.4) 33(5.2,2.4) 35(6,2.4) 37(6.8,2.4) 39(7.6,2.4)
  rect 0.55x2.8 smd far side: 2(-7.6,2.4) 4(-6.8,2.4) 6(-6,2.4) 8(-5.2,2.4) 10(-4.4,2.4) 12(-3.6,2.4) 14(-2.8,2.4) 16(-2,2.4) 18(-1.2,2.4) 20(-0.4,2.4) 22(0.4,2.4) 24(1.2,2.4) 26(2,2.4) 28(2.8,2.4) 30(3.6,2.4) 32(4.4,2.4) 34(5.2,2.4) 36(6,2.4) 38(6.8,2.4) 40(7.6,2.4)
F.SilkS:
  lines w0.254: -8.625,5.13 -7.355,6.4 8.625,6.4
  text "39" at 6.509,4.025 h0.75
  text "1" at -7.839,4.025 h0.75
B.SilkS:
  lines w0.254: -8.625,6.4 8.625,6.4
  text "40" at 7.959,4.025 h0.75
  text "2" at -7.2,4.025 h0.75
Top Assembly:
  lines w0.254: -8.625,0.88 8.625,0.88 ; -8.625,0 8.625,0 8.625,6.4 -7.355,6.4 -8.625,5.13 -8.625,0
  text "'.Designator'" at -4.047,1.7 h1
Bottom Assembly:
  lines w0.254: -8.625,0.88 8.625,0.88 ; -8.625,0 8.625,0 8.625,6.4 -8.625,6.4 -8.625,0
Top Courtyard:
  lines w0.254: -8.88,-0.25 8.88,-0.25 8.88,6.65 -8.88,6.65 -8.88,-0.25
Bottom Courtyard:
  lines w0.254: -8.88,-0.25 8.88,-0.25 8.88,6.65 -8.88,6.65 -8.88,-0.25
Top Designator:
  text ".Designator" at -5.509,0.475 h1.52
Board Shape:
  lines w0.254: -9.625,6 cw(c-9.625,5) -8.625,5 -8.625,0 8.625,0 8.625,5 cw(c9.625,5) 9.625,6
Cmts.User:
  lines w0.254: -8.625,-3.69 -6.125,-3.69 ; -8.625,-2.05 -6.125,-2.05
  text "mated PCB distance: 3.69 mm (max)" at -6.03,-4.411 h0.75
  text "mated PCB distance: 2.05 mm (min)" at -6.03,-2.771 h0.75
  text "Chamfer 30 degree 0.45 mm" at -7.868,-0.21 h0.75